# EAGLE library part ESD8006 (library marionette)
TVS protection 6 diode array Vrwv = 3.3V, Vbr = (5.5V typ, 7.0V max), Onsemi ESD8006, Digikey No. ESD8006MUTAGOSCT-ND 6mil trace/space
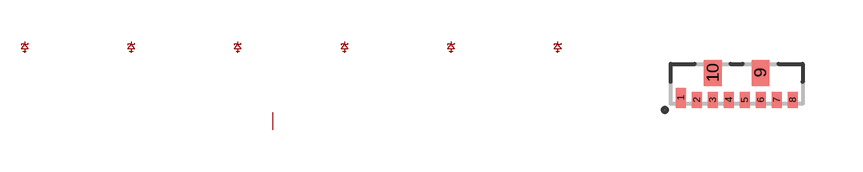
[diagram p7: symbol with the pads of UDFN-8-3.3X1.0_6MIL; footprint UDFN-8-3.3X1.0_6MIL]

Designator prefix D; gates G1=TVS_ANODE_TO_GND G2=TVS_ANODE_TO_GND G3=TVS_ANODE_TO_GND G4=TVS_ANODE_TO_GND G5=TVS_ANODE_TO_GND G6=TVS_ANODE_TO_GND G7=PIN_TVS_ANODE

## ESD8006-ESD8006  [UDFN-8-3.3X1.0_6MIL]
1  G1:CATHODE
2  G2:CATHODE
3  G7:PIN  pwr
4  G3:CATHODE
5  G4:CATHODE
6  G7:PIN  pwr
7  G5:CATHODE
8  G6:CATHODE
9  G7:PIN  pwr
10  G7:PIN  pwr

## Footprint UDFN-8-3.3X1.0_6MIL (pad centres in mm)
Package for ESD8006 device with layout squeezed to fit 6mil trace/space. This means that the width of the two big ground pads is 0.44mm which is .06mm smaller than recommended footprint, but probably still ok.
smd 0.25 x 0.5: 1 -1.4,-0.35
smd 0.25 x 0.4: 2 -1,-0.4; 3 -0.6,-0.4; 4 -0.2,-0.4; 5 0.2,-0.4; 6 0.6,-0.4; 7 1,-0.4; 8 1.4,-0.4
smd 0.44 x 0.65: 9 0.595,0.275; 10 -0.595,0.275